# Altium schematic symbol library Microfono.SchLib: 1 symbol
Pins are listed as number, name and electrical type; pins without a type are passive.

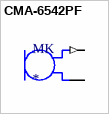
[diagram p0: symbol CMA-6542PF]

## CMA-6542PF
designator MK
9.7 mm, Omnidirectional, PCB Mount, 4.5 Vdc, Electret Condenser Microphone; MF: CUI Devices; MP: CMA-6542PF; Value: *; Price: None; Package: CUI Inc.; CUI_purchase_URL: https://www.cuidevices.com/product/audio/microphones/electret-condenser-microphones/cma-6542pf?utm_source=snapeda.com&utm_medium=referral&utm_campaign=snapedaBOM; SnapEDA_Link: https://www.snapeda.com/parts/CMA-6542PF/CUI%20Devices/view-part/316835/?ref=snap; Availability: Unavailable
footprint CUI_CMA-6542PF
pins: 1 OUT (out), 2 (power)